# EAGLE library part MSP430F5310IRGC (library texas-custom)
16-bit Microcontrollers - MCU Mixed Signal MCU
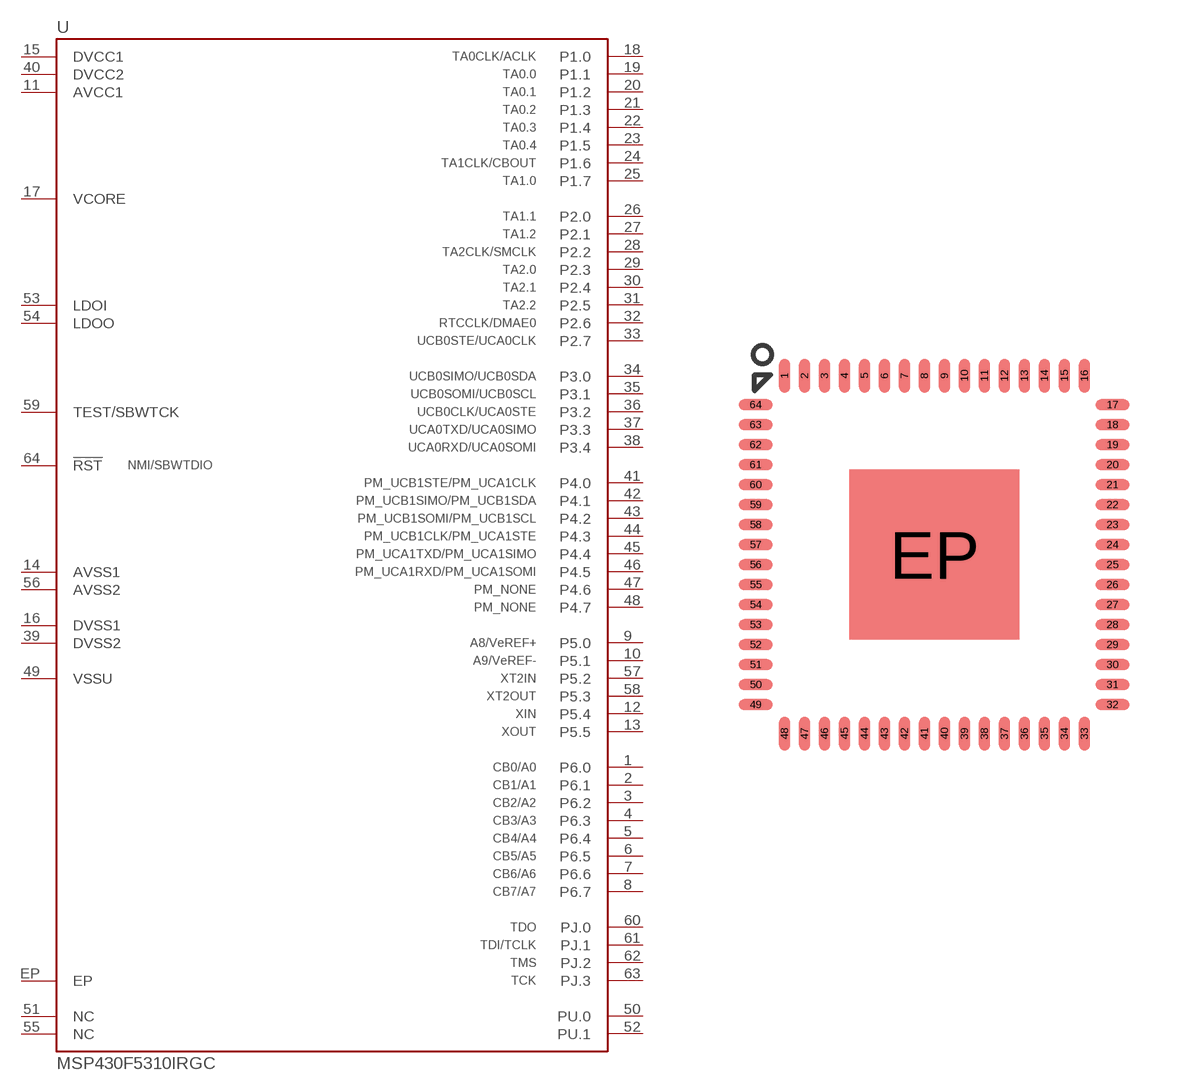
[diagram p4: symbol with the pads of S-PVQFN-N64; footprint S-PVQFN-N64]

Designator prefix U

## MSP430F5310IRGC  [S-PVQFN-N64]
1  P6.0
2  P6.1
3  P6.2
4  P6.3
5  P6.4
6  P6.5
7  P6.6
8  P6.7
9  P5.0
10  P5.1
11  AVCC1  pwr
12  P5.4
13  P5.5
14  AVSS1  pwr
15  DVCC1  pwr
16  DVSS1  pwr
17  VCORE  pwr
18  P1.0
19  P1.1
20  P1.2
21  P1.3
22  P1.4
23  P1.5
24  P1.6
25  P1.7
26  P2.0
27  P2.1
28  P2.2
29  P2.3
30  P2.4
31  P2.5
32  P2.6
33  P2.7
34  P3.0
35  P3.1
36  P3.2
37  P3.3
38  P3.4
39  DVSS2  pwr
40  DVCC2  pwr
41  P4.0
42  P4.1
43  P4.2
44  P4.3
45  P4.4
46  P4.5
47  P4.6
48  P4.7
49  VSSU  pwr
50  PU.0
51  NC  nc
52  PU.1
53  LDOI  pwr
54  LDOO  pwr
55  NC  nc
56  AVSS2  pwr
57  P5.2
58  P5.3
59  TEST/SBWTCK  in
60  PJ.0
61  PJ.1
62  PJ.2
63  PJ.3
64  !RST
EP  EP  pwr

## Footprint S-PVQFN-N64 (pad centres in mm)
smd 0.28 x 0.85: 1 -3.75,4.475; 2 -3.25,4.475; 3 -2.75,4.475; 4 -2.25,4.475; 5 -1.75,4.475; 6 -1.25,4.475; 7 -0.75,4.475; 8 -0.25,4.475; 9 0.25,4.475; 10 0.75,4.475; 11 1.25,4.475; 12 1.75,4.475; 13 2.25,4.475; 14 2.75,4.475; 15 3.25,4.475; 16 3.75,4.475; 33 3.75,-4.475; 34 3.25,-4.475; 35 2.75,-4.475; 36 2.25,-4.475; 37 1.75,-4.475; 38 1.25,-4.475; 39 0.75,-4.475; 40 0.25,-4.475; 41 -0.25,-4.475; 42 -0.75,-4.475; 43 -1.25,-4.475; 44 -1.75,-4.475; 45 -2.25,-4.475; 46 -2.75,-4.475; 47 -3.25,-4.475; 48 -3.75,-4.475
smd 0.85 x 0.28: 17 4.45,3.75; 18 4.45,3.25; 19 4.45,2.75; 20 4.45,2.25; 21 4.45,1.75; 22 4.45,1.25; 23 4.45,0.75; 24 4.45,0.25; 25 4.45,-0.25; 26 4.45,-0.75; 27 4.45,-1.25; 28 4.45,-1.75; 29 4.45,-2.25; 30 4.45,-2.75; 31 4.45,-3.25; 32 4.45,-3.75; 49 -4.475,-3.75; 50 -4.475,-3.25; 51 -4.475,-2.75; 52 -4.475,-2.25; 53 -4.475,-1.75; 54 -4.475,-1.25; 55 -4.475,-0.75; 56 -4.475,-0.25; 57 -4.475,0.25; 58 -4.475,0.75; 59 -4.475,1.25; 60 -4.475,1.75; 61 -4.475,2.25; 62 -4.475,2.75; 63 -4.475,3.25; 64 -4.475,3.75
smd 4.25 x 4.25: EP 0,0